# EAGLE library part LM3544-L (library signpost)
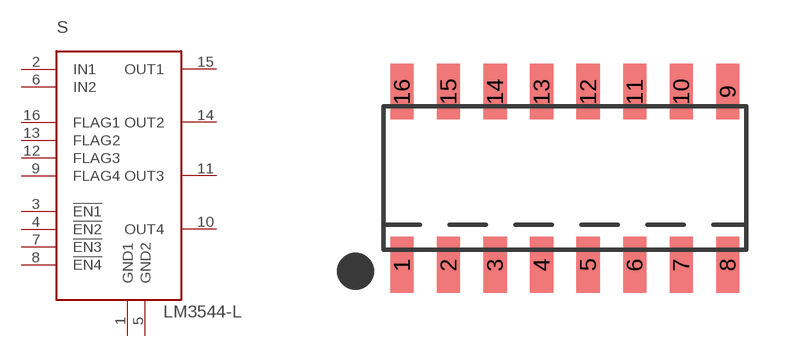
[diagram p3: symbol with the pads of SOIC-16; footprint SOIC-16]

Designator prefix S

## LM3544-L (DIGIKEY: 296-43226-1-ND)  [SOIC-16]
1  GND1
2  IN1
3  !EN1
4  !EN2
5  GND2
6  IN2
7  !EN3
8  !EN4
9  FLAG4
10  OUT4
11  OUT3
12  FLAG3
13  FLAG2
14  OUT2
15  OUT1
16  FLAG1

## Footprint SOIC-16 (pad centres in mm)
smd 0.635 x 1.524: 1 -4.445,-2.362; 2 -3.175,-2.362; 3 -1.905,-2.362; 4 -0.635,-2.362; 5 0.635,-2.362; 6 1.905,-2.362; 7 3.175,-2.362; 8 4.445,-2.362; 9 4.445,2.362; 10 3.175,2.362; 11 1.905,2.362; 12 0.635,2.362; 13 -0.635,2.362; 14 -1.905,2.362; 15 -3.175,2.362; 16 -4.445,2.362